# EAGLE library part DUAL_VNH5019 (library Self-Pololu)
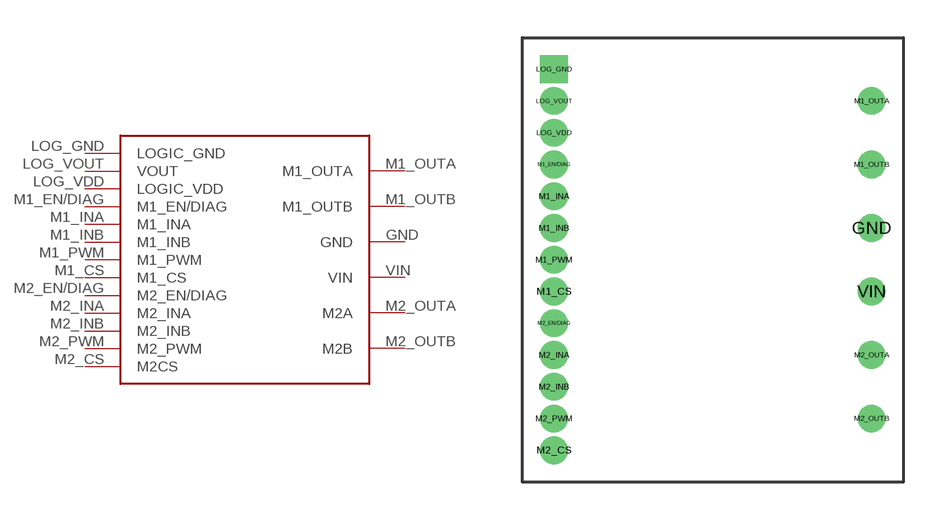
[diagram p0: symbol with the pads of DUAL_VNH5019; footprint DUAL_VNH5019]

Designator prefix DUAL_VNH5019

## DUAL_VNH5019  [DUAL_VNH5019]
GND  GND
LOG_GND  LOGIC_GND
LOG_VDD  LOGIC_VDD
LOG_VOUT  VOUT
M1_CS  M1_CS
M1_EN/DIAG  M1_EN/DIAG
M1_INA  M1_INA
M1_INB  M1_INB
M1_OUTA  M1_OUTA
M1_OUTB  M1_OUTB
M1_PWM  M1_PWM
M2_CS  M2CS
M2_EN/DIAG  M2_EN/DIAG
M2_INA  M2_INA
M2_INB  M2_INB
M2_OUTA  M2A
M2_OUTB  M2B
M2_PWM  M2_PWM
VIN  VIN

## Footprint DUAL_VNH5019 (pad centres in mm)
drill 0.6: GND 13.97,-7.62; LOG_VDD 1.27,-3.81; LOG_VOUT 1.27,-2.54; M1_CS 1.27,-10.16; M1_EN/DIAG 1.27,-5.08; M1_INA 1.27,-6.35; M1_INB 1.27,-7.62; M1_OUTA 13.97,-2.54; M1_OUTB 13.97,-5.08; M1_PWM 1.27,-8.89; M2_CS 1.27,-16.51; M2_EN/DIAG 1.27,-11.43; M2_INA 1.27,-12.7; M2_INB 1.27,-13.97; M2_OUTA 13.97,-12.7; M2_OUTB 13.97,-15.24; M2_PWM 1.27,-15.24; VIN 13.97,-10.16
drill 0.6 square: LOG_GND 1.27,-1.27